# EAGLE library part FLE-108-01-XX-DV (library FLE-108-01-XX-DV)
DOUBLE ROW 0.050"X0.050" STRIP ASSEMBLY. Check prices <https://pricing.snapeda.com/parts/FLE-108-01-G-DV/Samtec/view-part?ref=eda>
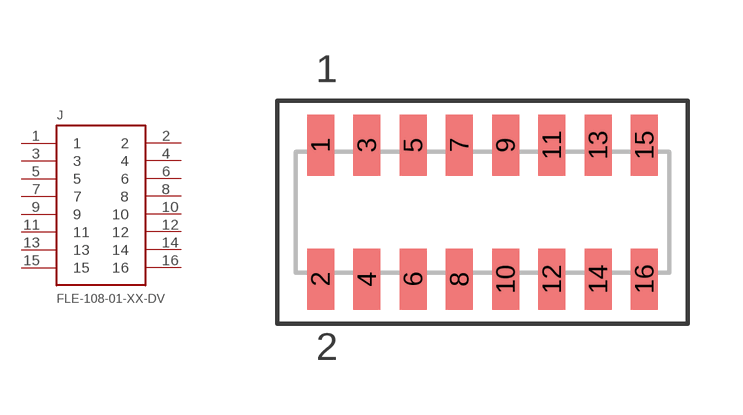
[diagram p0: symbol with the pads of FLE-108-01-XX-DV; footprint FLE-108-01-XX-DV]

Designator prefix J

## FLE-108-01-XX-DV (AVAILABILITY: Bad; DESCRIPTION: 16 Position Receptacle Connector Surface Mount; MF: Samtec; MP: FLE-108-01-G-DV; PACKAGE: None; PRICE: None; PURCHASE-URL: https://pricing.snapeda.com/search/part/FLE-108-01-G-DV/?ref=eda)  [FLE-108-01-XX-DV]
1  1
2  2
3  3
4  4
5  5
6  6
7  7
8  8
9  9
10  10
11  11
12  12
13  13
14  14
15  15
16  16

## Footprint FLE-108-01-XX-DV (pad centres in mm)
DOUBLE ROW 0.050"X0.050" STRIP ASSEMBLY.
smd 0.737 x 1.676: 1 -4.445,1.841; 2 -4.445,-1.841; 3 -3.175,1.841; 4 -3.175,-1.841; 5 -1.905,1.841; 6 -1.905,-1.841; 7 -0.635,1.841; 8 -0.635,-1.841; 9 0.635,1.841; 10 0.635,-1.841; 11 1.905,1.841; 12 1.905,-1.841; 13 3.175,1.841; 14 3.175,-1.841; 15 4.445,1.841; 16 4.445,-1.841